# Altium schematic symbol library kmilo17pet-TI_StepDown.SchLib: 565 symbols (part 3 of 33)
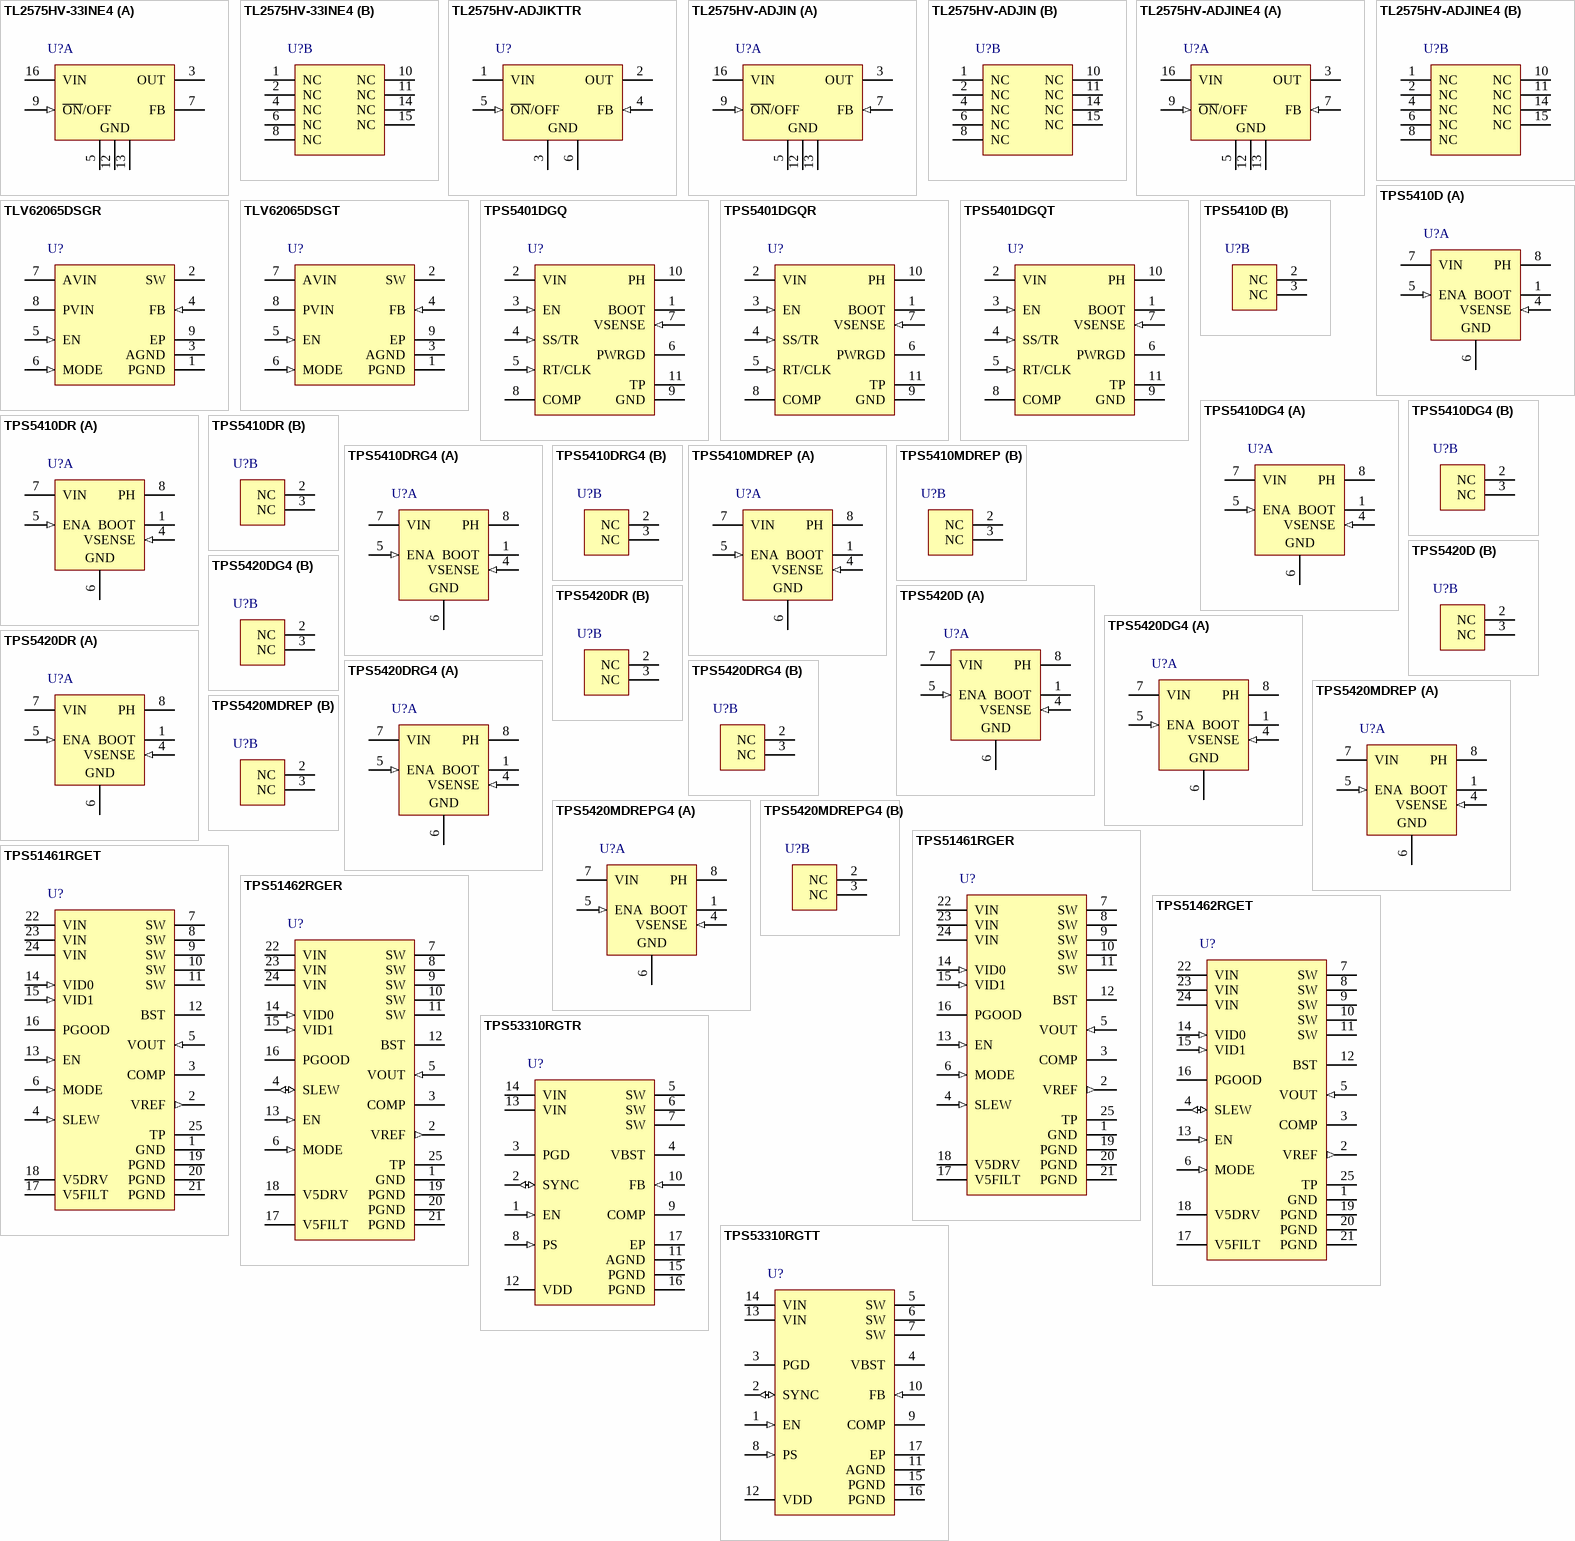
[diagram p21: symbols TL2575HV-33INE4 to TPS53310RGTT]

## TLV62065DSGR
designator U?
Buck Step Down Regulator with 2.9 to 5.5 V Input and 0.8 to 5.5 V Output, -40 to 85 degC, 8-Pin WSON (DSG), Green (RoHS & no Sb/Br); Manufacturer: Texas Instruments; PartNumber: TLV62065DSGR; Duty Cycle(Max)(%): 100; Iout(Max)(A): 2; Iq(Typ)(mA): 18; Rating: Catalog; Regulated Outputs(#): 1; SubFamily: Step-Down Regulator; Switch Current Limit(Typ)(A): 2.75; Vin(Max)(V): 5.5; Vin(Min)(V): 2.9; Vout(Min)(V): 0.8; DatasheetVersion: SLVSAC4A; PackageVersion: revB, Oct-2010; PackageReference: DSG8-1600X900TP; PackageDescription: 8-Pin Plastic Small Outline No-Lead, 2 x 2 x 0.8 mm Body, 0.5 mm Pitch, Exposed Pad; Supplier 1: Digi-Key; Supplier Part Number 1: TLV62065DSGR-ND; Eco-Plan: Green (RoHS & no Sb/Br); Topology: Buck; Vout(Max)(V): 5.5; Mounting Technology: Surface Mount; Code_JEDEC: MO-229; ComponentLink1Description: Datasheet; ComponentLink1URL: http://www.ti.com/general/docs/lit/getliterature.tsp?genericPartNumber=TLV62065&fileType=pdf; ComponentLink2Description: Package Specification; ComponentLink2URL: http://www.ti.com/litv/pdf/mpds308a; ComponentLink3Description: URL Link1; ComponentLink3URL: Samples URL:http://www.ti.com/product/tlv62065#samples
footprint DSG8-1600X900TP (SON, 8-Leads, Body 2x2mm, Pitch 0.5mm, Thermal Pad 1.6x0.9mm, TI Recommended)
pins: 1 PGND (power) "GND supply pin for the output stage.", 2 SW (power) "This is the switch pin and is connected to the internal MOSFET switches. Connect the external inductor between this terminal and the output capacitor.", 3 AGND (power) "Analog GND supply pin for the control circuit.", 4 FB (in) "Feedback pin for the internal regulation loop. Connect the external resistor divider to this pin. In case of fixed output voltage option, connect this pin directly to the output capacitor", 5 EN (in) "This is the enable pin of the device. Pulling this pin to low forces the device into shutdown mode. Pulling this pin to high enables the device. This pin must be terminated", 6 MODE (in) "MODE pin = high forces the device to operate in fixed frequency PWM mode. MODE pin = low enables the Power Save Mode with automatic transition from PFM mode to fixed frequency PWM mode. This pin must be terminated.", 7 AVIN (power) "Analog VIN power supply for the control circuit. Need to be connected to PVIN and input capacitor.", 8 PVIN (power) "VIN power supply pin for the output stage.", 9 EP (power) "For good thermal performance, this PAD must be soldered to the land pattern on the pcb. This PAD should be used as device GND."

## TLV62065DSGT
designator U?
Buck Step Down Regulator with 2.9 to 5.5 V Input and 0.8 to 5.5 V Output, -40 to 85 degC, 8-Pin WSON (DSG), Green (RoHS & no Sb/Br); Manufacturer: Texas Instruments; PartNumber: TLV62065DSGT; Duty Cycle(Max)(%): 100; Iout(Max)(A): 2; Iq(Typ)(mA): 18; Rating: Catalog; Regulated Outputs(#): 1; SubFamily: Step-Down Regulator; Switch Current Limit(Typ)(A): 2.75; Vin(Max)(V): 5.5; Vin(Min)(V): 2.9; Vout(Min)(V): 0.8; DatasheetVersion: SLVSAC4A; PackageVersion: revB, Oct-2010; PackageReference: DSG8-1600X900TP; PackageDescription: 8-Pin Plastic Small Outline No-Lead, 2 x 2 x 0.8 mm Body, 0.5 mm Pitch, Exposed Pad; Supplier 1: Digi-Key; Supplier Part Number 1: 296-28083-2-ND; Eco-Plan: Green (RoHS & no Sb/Br); Topology: Buck; Vout(Max)(V): 5.5; Mounting Technology: Surface Mount; Code_JEDEC: MO-229; ComponentLink1Description: Datasheet; ComponentLink1URL: http://www.ti.com/general/docs/lit/getliterature.tsp?genericPartNumber=TLV62065&fileType=pdf; ComponentLink2Description: Package Specification; ComponentLink2URL: http://www.ti.com/litv/pdf/mpds308a; ComponentLink3Description: URL Link1; ComponentLink3URL: Samples URL:http://www.ti.com/product/tps54611#samples
footprint DSG8-1600X900TP (SON, 8-Leads, Body 2x2mm, Pitch 0.5mm, Thermal Pad 1.6x0.9mm, TI Recommended)
pins: 1 PGND (power) "GND supply pin for the output stage.", 2 SW (power) "This is the switch pin and is connected to the internal MOSFET switches. Connect the external inductor between this terminal and the output capacitor.", 3 AGND (power) "Analog GND supply pin for the control circuit.", 4 FB (in) "Feedback pin for the internal regulation loop. Connect the external resistor divider to this pin. In case of fixed output voltage option, connect this pin directly to the output capacitor", 5 EN (in) "This is the enable pin of the device. Pulling this pin to low forces the device into shutdown mode. Pulling this pin to high enables the device. This pin must be terminated", 6 MODE (in) "MODE pin = high forces the device to operate in fixed frequency PWM mode. MODE pin = low enables the Power Save Mode with automatic transition from PFM mode to fixed frequency PWM mode. This pin must be terminated.", 7 AVIN (power) "Analog VIN power supply for the control circuit. Need to be connected to PVIN and input capacitor.", 8 PVIN (power) "VIN power supply pin for the output stage.", 9 EP (power) "For good thermal performance, this PAD must be soldered to the land pattern on the pcb. This PAD should be used as device GND."

## TPS5401DGQ
designator U?
Buck Step Down Regulator with 3.5 to 42 V Input and 0.8 to 39 V Output, -40 to 150 degC, 10-Pin MSOP-PowerPAD (DGQ), Green (RoHS & no Sb/Br); Manufacturer: Texas Instruments; PartNumber: TPS5401DGQ; Duty Cycle(Max)(%): 98; Iout(Max)(A): 0.5; Iq(Typ)(mA): 0.116; Rating: Catalog; Regulated Outputs(#): 1; SubFamily: Step-Down Regulator; Switch Current Limit(Typ)(A): 0.94; Vin(Max)(V): 42; Vin(Min)(V): 3.5; Vout(Max)(V): 39; Vout(Min)(V): 0.8; DatasheetVersion: SLVSAB0; PackageVersion: revF, Nov-2011; PackageReference: DGQ10-1675X1445TP; PackageDescription: 10-Pin PowerPAD Plastic Small Outline 0.5 mm Pitch, Exposed Pad; Supplier 1: Digi-Key; Supplier Part Number 1: 296-34610-5-ND; Eco-Plan: Green (RoHS & no Sb/Br); Topology: Buck; Mounting Technology: Surface Mount; Code_JEDEC: MO-187-BA-T; ComponentLink1Description: Datasheet; ComponentLink1URL: http://www.ti.com/general/docs/lit/getliterature.tsp?genericPartNumber=TPS5401&fileType=pdf; ComponentLink2Description: Package Specification; ComponentLink2URL: http://www.ti.com/lit/ml/mpds043e/mpds043e.pdf; ComponentLink3Description: URL Link1; ComponentLink3URL: Samples URL:http://www.ti.com/product/tps5401#samples
footprint DGQ10-1675X1445TP_N (TSSOP, 10-Leads, Body 3x3mm, Pitch 0.5mm, Thermal Pad 1.88x1.57mm, IPC Medium Density)
footprint DGQ10-1675X1445TP_L (TSSOP, 10-Leads, Body 3x3mm, Pitch 0.5mm, Thermal Pad 1.88x1.57mm, IPC High Density)
footprint DGQ10-1675X1445TP_M (TSSOP, 10-Leads, Body 3x3mm, Pitch 0.5mm, Thermal Pad 1.88x1.57mm, IPC Low Density)
pins: 1 BOOT "A bootstrap capacitor is required between BOOT and PH. If the voltage on this capacitor is below the minimum required by the output device, the output is forced to switch off until the capacitor is refreshed.", 2 VIN (power) "Input supply voltage, 3.5 V to 42 V.", 3 EN (in) "Enable pin, internal pullup current source. Pull below 1.2 V to disable. Float to enable. Adjust the input undervoltage lockout with two resistors.", 4 SS/TR (in) "Slow-start and tracking. An external capacitor connected to this pin sets the output rise time. Because the voltage on this pin overrides the internal reference, it can be used for tracking and sequencing.", 5 RT/CLK (in) "Resistor timing and external clock. An internal amplifier holds this pin at a fixed voltage when using an external resistor to ground to set the switching frequency. If the pin is pulled above the PLL upper threshold, a mode (See Datasheet)", 6 PWRGD (oc) "An open-drain output; asserts low if output voltage is low due to thermal shutdown, dropout, overvoltage or EN shutdown.", 7 VSENSE (in) "Inverting node of the transconductance (gm) error amplifier.", 8 COMP "Error amplifier output, and input to the output switch current comparator. Connect frequency compensation components to this pin.", 9 GND (power) "Ground", 10 PH (power) "The source of the internal high-side power MOSFET", 11 TP (power) "GND pin must be electrically connected to the thermal pad on the printed circuit board for proper operation."

## TPS5401DGQR
designator U?
Buck Step Down Regulator with 3.5 to 42 V Input and 0.8 to 39 V Output, -40 to 150 degC, 10-Pin MSOP-PowerPAD (DGQ), Green (RoHS & no Sb/Br); Manufacturer: Texas Instruments; PartNumber: TPS5401DGQR; Duty Cycle(Max)(%): 98; Iout(Max)(A): 0.5; Iq(Typ)(mA): 0.116; Rating: Catalog; Regulated Outputs(#): 1; SubFamily: Step-Down Regulator; Switch Current Limit(Typ)(A): 0.94; Vin(Max)(V): 42; Vin(Min)(V): 3.5; Vout(Max)(V): 39; Vout(Min)(V): 0.8; DatasheetVersion: SLVSAB0; PackageVersion: revF, Nov-2011; PackageReference: DGQ10-1675X1445TP; PackageDescription: 10-Pin PowerPAD Plastic Small Outline 0.5 mm Pitch, Exposed Pad; Supplier 1: Digi-Key; Supplier Part Number 1: TPS5401DGQR-ND; Eco-Plan: Green (RoHS & no Sb/Br); Topology: Buck; Mounting Technology: Surface Mount; Code_JEDEC: MO-187-BA-T; ComponentLink1Description: Datasheet; ComponentLink1URL: http://www.ti.com/general/docs/lit/getliterature.tsp?genericPartNumber=TPS5401&fileType=pdf; ComponentLink2Description: Package Specification; ComponentLink2URL: http://www.ti.com/lit/ml/mpds043e/mpds043e.pdf; ComponentLink3Description: URL Link1; ComponentLink3URL: Samples URL:http://www.ti.com/product/tps5401#samples
footprint DGQ10-1675X1445TP_N (TSSOP, 10-Leads, Body 3x3mm, Pitch 0.5mm, Thermal Pad 1.88x1.57mm, IPC Medium Density)
footprint DGQ10-1675X1445TP_L (TSSOP, 10-Leads, Body 3x3mm, Pitch 0.5mm, Thermal Pad 1.88x1.57mm, IPC High Density)
footprint DGQ10-1675X1445TP_M (TSSOP, 10-Leads, Body 3x3mm, Pitch 0.5mm, Thermal Pad 1.88x1.57mm, IPC Low Density)
pins: 1 BOOT "A bootstrap capacitor is required between BOOT and PH. If the voltage on this capacitor is below the minimum required by the output device, the output is forced to switch off until the capacitor is refreshed.", 2 VIN (power) "Input supply voltage, 3.5 V to 42 V.", 3 EN (in) "Enable pin, internal pullup current source. Pull below 1.2 V to disable. Float to enable. Adjust the input undervoltage lockout with two resistors.", 4 SS/TR (in) "Slow-start and tracking. An external capacitor connected to this pin sets the output rise time. Because the voltage on this pin overrides the internal reference, it can be used for tracking and sequencing.", 5 RT/CLK (in) "Resistor timing and external clock. An internal amplifier holds this pin at a fixed voltage when using an external resistor to ground to set the switching frequency. If the pin is pulled above the PLL upper threshold, a mode (See Datasheet)", 6 PWRGD (oc) "An open-drain output; asserts low if output voltage is low due to thermal shutdown, dropout, overvoltage or EN shutdown.", 7 VSENSE (in) "Inverting node of the transconductance (gm) error amplifier.", 8 COMP "Error amplifier output, and input to the output switch current comparator. Connect frequency compensation components to this pin.", 9 GND (power) "Ground", 10 PH (power) "The source of the internal high-side power MOSFET", 11 TP (power) "GND pin must be electrically connected to the thermal pad on the printed circuit board for proper operation."

## TPS5401DGQT
designator U?
Buck Step Down Regulator with 3.5 to 42 V Input and 0.8 to 39 V Output, -40 to 150 degC, 10-Pin MSOP-PowerPAD (DGQ), Green (RoHS & no Sb/Br); Manufacturer: Texas Instruments; PartNumber: TPS5401DGQT; Duty Cycle(Max)(%): 98; Iout(Max)(A): 0.5; Iq(Typ)(mA): 0.116; Rating: Catalog; Regulated Outputs(#): 1; SubFamily: Step-Down Regulator; Switch Current Limit(Typ)(A): 0.94; Synchronous Rectification: False; Vin(Max)(V): 42; Vin(Min)(V): 3.5; Vout(Max)(V): 39; Vout(Min)(V): 0.8; DatasheetVersion: SLVSAB0; PackageVersion: revF, Nov-2011; PackageReference: DGQ10-1675X1445TP; PackageDescription: 10-Pin PowerPAD Plastic Small Outline 0.5 mm Pitch, Exposed Pad; Supplier 1: Digi-Key; Supplier Part Number 1: 296-28092-2-ND; Eco-Plan: Green (RoHS & no Sb/Br); Topology: Buck; Mounting Technology: Surface Mount; Code_JEDEC: MO-187-BA-T; ComponentLink1Description: Datasheet; ComponentLink1URL: http://www.ti.com/general/docs/lit/getliterature.tsp?genericPartNumber=TPS5401&fileType=pdf; ComponentLink2Description: Package Specification; ComponentLink2URL: http://www.ti.com/lit/ml/mpds043e/mpds043e.pdf; ComponentLink3Description: URL Link1; ComponentLink3URL: Samples URL:http://www.ti.com/product/tps5401
footprint DGQ10-1675X1445TP_N (TSSOP, 10-Leads, Body 3x3mm, Pitch 0.5mm, Thermal Pad 1.88x1.57mm, IPC Medium Density)
footprint DGQ10-1675X1445TP_L (TSSOP, 10-Leads, Body 3x3mm, Pitch 0.5mm, Thermal Pad 1.88x1.57mm, IPC High Density)
footprint DGQ10-1675X1445TP_M (TSSOP, 10-Leads, Body 3x3mm, Pitch 0.5mm, Thermal Pad 1.88x1.57mm, IPC Low Density)
pins: 1 BOOT "A bootstrap capacitor is required between BOOT and PH. If the voltage on this capacitor is below the minimum required by the output device, the output is forced to switch off until the capacitor is refreshed.", 2 VIN (power) "Input supply voltage, 3.5 V to 42 V.", 3 EN (in) "Enable pin, internal pullup current source. Pull below 1.2 V to disable. Float to enable. Adjust the input undervoltage lockout with two resistors.", 4 SS/TR (in) "Slow-start and tracking. An external capacitor connected to this pin sets the output rise time. Because the voltage on this pin overrides the internal reference, it can be used for tracking and sequencing.", 5 RT/CLK (in) "Resistor timing and external clock. An internal amplifier holds this pin at a fixed voltage when using an external resistor to ground to set the switching frequency. If the pin is pulled above the PLL upper threshold, a mode (See Datasheet)", 6 PWRGD (oc) "An open-drain output; asserts low if output voltage is low due to thermal shutdown, dropout, overvoltage or EN shutdown.", 7 VSENSE (in) "Inverting node of the transconductance (gm) error amplifier.", 8 COMP "Error amplifier output, and input to the output switch current comparator. Connect frequency compensation components to this pin.", 9 GND (power) "Ground", 10 PH (power) "The source of the internal high-side power MOSFET", 11 TP (power) "GND pin must be electrically connected to the thermal pad on the printed circuit board for proper operation."

## TPS5410D
designator U?
Buck Step Down Regulator with 5.5 to 36 V Input and 1.23 to 31 V Output, -40 to 125 degC, 8-Pin SOIC (D), Green (RoHS & no Sb/Br); Manufacturer: Texas Instruments; PartNumber: TPS5410D; Duty Cycle(Max)(%): 87.5; Iout(Max)(A): 1; Iq(Typ)(mA): 3; Rating: Catalog; SubFamily: Step-Down Regulator; Switch Current Limit(Typ)(A): 1.2; Vin(Max)(V): 36; Vin(Min)(V): 5.5; Vout(Max)(V): 31; Vout(Min)(V): 1.23; DatasheetVersion: SLVS675A; PackageVersion: revM, Jun-2011; PackageReference: D8; PackageDescription: 8-Pin Plastic Small Outline Integrated Circuit, 4.9 x 3.9 mm, Pitch 1.27 mm Pitch; Supplier 1: Digi-Key; Supplier Part Number 1: 296-20787-5-ND; Eco-Plan: Green (RoHS & no Sb/Br); Regulated Outputs(#): 1; Topology: Buck; Mounting Technology: Surface Mount; Code_JEDEC: MS-012AA; ComponentLink1Description: Datasheet; ComponentLink1URL: http://www.ti.com/general/docs/lit/getliterature.tsp?genericPartNumber=TPS5410&fileType=pdf; ComponentLink2Description: Package Specification; ComponentLink2URL: http://www.ti.com/litv/pdf/msoi002j; ComponentLink3Description: URL Link1; ComponentLink3URL: Samples URL:http://www.ti.com/product/tps5410#samples
footprint D8_N (SOIC, 8-Leads, Body 4.9x3.9mm, Pitch 1.27mm, IPC Medium Density)
footprint D8_L (SOIC, 8-Leads, Body 4.9x3.9mm, Pitch 1.27mm, IPC High Density)
footprint D8_M (SOIC, 8-Leads, Body 4.9x3.9mm, Pitch 1.27mm, IPC Low Density)
part A pins: 1 BOOT "Boost capacitor for the high-side FET gate driver. Connect 0.01 mF low ESR capacitor from BOOT pin to PH pin.", 4 VSENSE (in) "Feedback voltage for the regulator. Connect to output voltage divider", 5 ENA (in) "On/off control. Below 0.5 V, the device stops switching. Float the pin to enable.", 6 GND (power) "Ground", 7 VIN (power) "Input supply voltage. Bypass VIN pin to GND pin close to device package with a high quality, low ESR ceramic capacitor.", 8 PH (power) "Source of the high side power MOSFET. Connected to external inductor and diode."
part B pins: 2 NC "Not connected internally.", 3 NC "Not connected internally."

## TPS5410DG4
designator U?
Buck Step Down Regulator with 5.5 to 36 V Input and 1.23 to 31 V Output, -40 to 125 degC, 8-Pin SOIC (D), Green (RoHS & no Sb/Br); Manufacturer: Texas Instruments; PartNumber: TPS5410DG4; Duty Cycle(Max)(%): 87.5; Iout(Max)(A): 1; Iq(Typ)(mA): 3; Rating: Catalog; SubFamily: Step-Down Regulator; Switch Current Limit(Typ)(A): 1.2; Vin(Max)(V): 36; Vin(Min)(V): 5.5; Vout(Max)(V): 31; Vout(Min)(V): 1.23; DatasheetVersion: SLVS675A; PackageVersion: revM, Jun-2011; PackageReference: D8; PackageDescription: 8-Pin Plastic Small Outline Integrated Circuit, 4.9 x 3.9 mm, Pitch 1.27 mm Pitch; Supplier 1: Digi-Key; Supplier Part Number 1: TPS5410DG4-ND; Eco-Plan: Green (RoHS & no Sb/Br); Regulated Outputs(#): 1; Topology: Buck; Mounting Technology: Surface Mount; Code_JEDEC: MS-012AA; ComponentLink1Description: Datasheet; ComponentLink1URL: http://www.ti.com/general/docs/lit/getliterature.tsp?genericPartNumber=TPS5410&fileType=pdf; ComponentLink2Description: Package Specification; ComponentLink2URL: http://www.ti.com/litv/pdf/msoi002j; ComponentLink3Description: URL Link1; ComponentLink3URL: Samples URL:http://www.ti.com/product/tps5410#samples
footprint D8_N (SOIC, 8-Leads, Body 4.9x3.9mm, Pitch 1.27mm, IPC Medium Density)
footprint D8_L (SOIC, 8-Leads, Body 4.9x3.9mm, Pitch 1.27mm, IPC High Density)
footprint D8_M (SOIC, 8-Leads, Body 4.9x3.9mm, Pitch 1.27mm, IPC Low Density)
part A pins: 1 BOOT "Boost capacitor for the high-side FET gate driver. Connect 0.01 mF low ESR capacitor from BOOT pin to PH pin.", 4 VSENSE (in) "Feedback voltage for the regulator. Connect to output voltage divider", 5 ENA (in) "On/off control. Below 0.5 V, the device stops switching. Float the pin to enable.", 6 GND (power) "Ground", 7 VIN (power) "Input supply voltage. Bypass VIN pin to GND pin close to device package with a high quality, low ESR ceramic capacitor.", 8 PH (power) "Source of the high side power MOSFET. Connected to external inductor and diode."
part B pins: 2 NC "Not connected internally.", 3 NC "Not connected internally."

## TPS5410DR
designator U?
Buck Step Down Regulator with 5.5 to 36 V Input and 1.23 to 31 V Output, -40 to 125 degC, 8-Pin SOIC (D), Green (RoHS & no Sb/Br); Manufacturer: Texas Instruments; PartNumber: TPS5410DR; Duty Cycle(Max)(%): 87.5; Iout(Max)(A): 1; Iq(Typ)(mA): 3; Rating: Catalog; SubFamily: Step-Down Regulator; Switch Current Limit(Typ)(A): 1.2; Vin(Max)(V): 36; Vin(Min)(V): 5.5; Vout(Max)(V): 31; Vout(Min)(V): 1.23; DatasheetVersion: SLVS675A; PackageVersion: revM, Jun-2011; PackageReference: D8; PackageDescription: 8-Pin Plastic Small Outline Integrated Circuit, 4.9 x 3.9 mm, Pitch 1.27 mm Pitch; Supplier 1: Digi-Key; Supplier Part Number 1: 296-26982-2-ND; Eco-Plan: Green (RoHS & no Sb/Br); Regulated Outputs(#): 1; Topology: Buck; Mounting Technology: Surface Mount; Code_JEDEC: MS-012AA; ComponentLink1Description: Datasheet; ComponentLink1URL: http://www.ti.com/general/docs/lit/getliterature.tsp?genericPartNumber=TPS5410&fileType=pdf; ComponentLink2Description: Package Specification; ComponentLink2URL: http://www.ti.com/litv/pdf/msoi002j; ComponentLink3Description: URL Link1; ComponentLink3URL: Samples URL:http://www.ti.com/product/tps5410#samples
footprint D8_N (SOIC, 8-Leads, Body 4.9x3.9mm, Pitch 1.27mm, IPC Medium Density)
footprint D8_L (SOIC, 8-Leads, Body 4.9x3.9mm, Pitch 1.27mm, IPC High Density)
footprint D8_M (SOIC, 8-Leads, Body 4.9x3.9mm, Pitch 1.27mm, IPC Low Density)
part A pins: 1 BOOT "Boost capacitor for the high-side FET gate driver. Connect 0.01 mF low ESR capacitor from BOOT pin to PH pin.", 4 VSENSE (in) "Feedback voltage for the regulator. Connect to output voltage divider", 5 ENA (in) "On/off control. Below 0.5 V, the device stops switching. Float the pin to enable.", 6 GND (power) "Ground", 7 VIN (power) "Input supply voltage. Bypass VIN pin to GND pin close to device package with a high quality, low ESR ceramic capacitor.", 8 PH (power) "Source of the high side power MOSFET. Connected to external inductor and diode."
part B pins: 2 NC "Not connected internally.", 3 NC "Not connected internally."

## TPS5410DRG4
designator U?
Buck Step Down Regulator with 5.5 to 36 V Input and 1.23 to 31 V Output, -40 to 125 degC, 8-Pin SOIC (D), Green (RoHS & no Sb/Br); Manufacturer: Texas Instruments; PartNumber: TPS5410DRG4; Duty Cycle(Max)(%): 87.5; Iout(Max)(A): 1; Iq(Typ)(mA): 3; Rating: Catalog; SubFamily: Step-Down Regulator; Switch Current Limit(Typ)(A): 1.2; Vin(Max)(V): 36; Vin(Min)(V): 5..5; Vout(Max)(V): 31; Vout(Min)(V): 1.23; DatasheetVersion: SLVS675A; PackageVersion: revM, Jun-2011; PackageReference: D8; PackageDescription: 8-Pin Plastic Small Outline Integrated Circuit, 4.9 x 3.9 mm, Pitch 1.27 mm Pitch; Supplier 1: Digi-Key; Supplier Part Number 1: TPS5410DRG4-ND; Eco-Plan: Green (RoHS & no Sb/Br); Regulated Outputs(#): 1; Topology: Buck; Mounting Technology: Surface Mount; Code_JEDEC: MS-012AA; ComponentLink1Description: Datasheet; ComponentLink1URL: http://www.ti.com/general/docs/lit/getliterature.tsp?genericPartNumber=TPS5410&fileType=pdf; ComponentLink2Description: Package Specification; ComponentLink2URL: http://www.ti.com/litv/pdf/msoi002j; ComponentLink3Description: URL Link1; ComponentLink3URL: Samples URL:http://www.ti.com/product/tps54611#samples
footprint D8_N (SOIC, 8-Leads, Body 4.9x3.9mm, Pitch 1.27mm, IPC Medium Density)
footprint D8_L (SOIC, 8-Leads, Body 4.9x3.9mm, Pitch 1.27mm, IPC High Density)
footprint D8_M (SOIC, 8-Leads, Body 4.9x3.9mm, Pitch 1.27mm, IPC Low Density)
part A pins: 1 BOOT "Boost capacitor for the high-side FET gate driver. Connect 0.01 mF low ESR capacitor from BOOT pin to PH pin.", 4 VSENSE (in) "Feedback voltage for the regulator. Connect to output voltage divider", 5 ENA (in) "On/off control. Below 0.5 V, the device stops switching. Float the pin to enable.", 6 GND (power) "Ground", 7 VIN (power) "Input supply voltage. Bypass VIN pin to GND pin close to device package with a high quality, low ESR ceramic capacitor.", 8 PH (power) "Source of the high side power MOSFET. Connected to external inductor and diode."
part B pins: 2 NC "Not connected internally.", 3 NC "Not connected internally."

## TPS5410MDREP
designator U?
Buck Step Down Regulator with 5.5 to 36 V Input and 1.23 to 31 V Output, -55 to 125 degC, 8-Pin SOIC (D), Green (RoHS & no Sb/Br); Manufacturer: Texas Instruments; PartNumber: TPS5410MDREP; Duty Cycle(Max)(%): 87.5; Iout(Max)(A): 1; Iq(Typ)(mA): 3; Rating: HiRel Enhanced Product; SubFamily: Step-Down Regulator; Switch Current Limit(Typ)(A): 1.2; Vin(Max)(V): 36; Vin(Min)(V): 5.5; Vout(Max)(V): 31; Vout(Min)(V): 1.23; DatasheetVersion: SLVS910; PackageVersion: revM, Jun-2011; PackageReference: D8; PackageDescription: 8-Pin Plastic Small Outline Integrated Circuit, 4.9 x 3.9 mm, Pitch 1.27 mm Pitch; Supplier 1: Digi-Key; Supplier Part Number 1: 296-25179-2-ND; Eco-Plan: Green (RoHS & no Sb/Br); Regulated Outputs(#): 1; Topology: Buck; Mounting Technology: Surface Mount; Code_JEDEC: MS-012AA; ComponentLink1Description: Datasheet; ComponentLink1URL: http://www.ti.com/general/docs/lit/getliterature.tsp?genericPartNumber=TPS5410-EP&fileType=pdf; ComponentLink2Description: Package Specification; ComponentLink2URL: http://www.ti.com/litv/pdf/msoi002j; ComponentLink3Description: URL Link1; ComponentLink3URL: Samples URL:http://www.ti.com/product/tps5410-ep#samples
footprint D8_N (SOIC, 8-Leads, Body 4.9x3.9mm, Pitch 1.27mm, IPC Medium Density)
footprint D8_L (SOIC, 8-Leads, Body 4.9x3.9mm, Pitch 1.27mm, IPC High Density)
footprint D8_M (SOIC, 8-Leads, Body 4.9x3.9mm, Pitch 1.27mm, IPC Low Density)
part A pins: 1 BOOT "Boost capacitor for the high-side FET gate driver. Connect 0.01 uF low ESR capacitor from BOOT pin to PH pin.", 4 VSENSE (in) "Feedback voltage for the regulator. Connect to output voltage divider.", 5 ENA (in) "On/off control. Below 0.5 V, the device stops switching. Float the pin to enable.", 6 GND (power) "Ground.", 7 VIN (power) "Input supply voltage. Bypass VIN pin to GND pin close to device package with a high quality, low ESR ceramic capacitor.", 8 PH (power) "Source of the high side power MOSFET. Connected to external inductor and diode."
part B pins: 2 NC "Not connected internally.", 3 NC "Not connected internally."

## TPS5420D
designator U?
Buck Step Down Regulator with 5.5 to 36 V Input and 1.23 to 31 V Output, -40 to 125 degC, 8-Pin SOIC (D), Green (RoHS & no Sb/Br); Manufacturer: Texas Instruments; PartNumber: TPS5420D; Duty Cycle(Max)(%): 87; Iout(Max)(A): 2; Iq(Typ)(mA): 3; Rating: Catalog; Regulated Outputs(#): 1; SubFamily: Step-Down Regulator; Vin(Max)(V): 36; Vin(Min)(V): 5.5; Vout(Max)(V): 31; Vout(Min)(V): 1.23; DatasheetVersion: SLVS642C; PackageVersion: revM, Jun-2011; PackageReference: D8; PackageDescription: 8-Pin Plastic Small Outline Integrated Circuit, 4.9 x 3.9 mm, Pitch 1.27 mm Pitch; Supplier 1: Digi-Key; Supplier Part Number 1: 296-19671-5-ND; Eco-Plan: Green (RoHS & no Sb/Br); Switch Current Limit(Typ)(A): 3; Topology: Buck; Mounting Technology: Surface Mount; Code_JEDEC: MS-012AA; ComponentLink1Description: Datasheet; ComponentLink1URL: http://www.ti.com/general/docs/lit/getliterature.tsp?genericPartNumber=TPS5420&fileType=pdf; ComponentLink2Description: Package Specification; ComponentLink2URL: http://www.ti.com/litv/pdf/msoi002j; ComponentLink3Description: URL Link1; ComponentLink3URL: Samples URL:http://www.ti.com/product/tps5420#samples
footprint D8_N (SOIC, 8-Leads, Body 4.9x3.9mm, Pitch 1.27mm, IPC Medium Density)
footprint D8_L (SOIC, 8-Leads, Body 4.9x3.9mm, Pitch 1.27mm, IPC High Density)
footprint D8_M (SOIC, 8-Leads, Body 4.9x3.9mm, Pitch 1.27mm, IPC Low Density)
part A pins: 1 BOOT "Boost capacitor for the high-side FET gate driver. Connect 0.01 uF low ESR capacitor from BOOT pin to PH pin.", 4 VSENSE (in) "Feedback voltage for the regulator. Connect to output voltage divider.", 5 ENA (in) "On/off control. Below 0.5 V, the device stops switching. Float the pin to enable.", 6 GND (power) "Ground.", 7 VIN (power) "Input supply voltage. Bypass VIN pin to GND pin close to device package with a high quality, low ESR ceramic capacitor.", 8 PH (power) "Source of the high side power MOSFET. Connected to external inductor and diode."
part B pins: 2 NC "Not connected internally.", 3 NC "Not connected internally."

## TPS5420DG4
designator U?
Buck Step Down Regulator with 5.5 to 36 V Input and 1.23 to 31 V Output, -40 to 125 degC, 8-Pin SOIC (D), Green (RoHS & no Sb/Br); Manufacturer: Texas Instruments; PartNumber: TPS5420DG4; Duty Cycle(Max)(%): 87; Iout(Max)(A): 2; Iq(Typ)(mA): 3; Rating: Catalog; Regulated Outputs(#): 1; SubFamily: Step-Down Regulator; Vin(Max)(V): 36; Vin(Min)(V): 5.5; Vout(Max)(V): 31; Vout(Min)(V): 1.23; DatasheetVersion: SLVS642C; PackageVersion: revM, Jun-2011; PackageReference: D8; PackageDescription: 8-Pin Plastic Small Outline Integrated Circuit, 4.9 x 3.9 mm, Pitch 1.27 mm Pitch; Supplier 1: Digi-Key; Supplier Part Number 1: TPS5420DG4-ND; Eco-Plan: Green (RoHS & no Sb/Br); Switch Current Limit(Typ)(A): 3; Topology: Buck; Mounting Technology: Surface Mount; Code_JEDEC: MS-012AA; ComponentLink1Description: Datasheet; ComponentLink1URL: http://www.ti.com/general/docs/lit/getliterature.tsp?genericPartNumber=TPS5420&fileType=pdf; ComponentLink2Description: Package Specification; ComponentLink2URL: http://www.ti.com/litv/pdf/msoi002j; ComponentLink3Description: URL Link1; ComponentLink3URL: Samples URL:http://www.ti.com/product/tps5420#samples
footprint D8_N (SOIC, 8-Leads, Body 4.9x3.9mm, Pitch 1.27mm, IPC Medium Density)
footprint D8_L (SOIC, 8-Leads, Body 4.9x3.9mm, Pitch 1.27mm, IPC High Density)
footprint D8_M (SOIC, 8-Leads, Body 4.9x3.9mm, Pitch 1.27mm, IPC Low Density)
part A pins: 1 BOOT "Boost capacitor for the high-side FET gate driver. Connect 0.01 uF low ESR capacitor from BOOT pin to PH pin.", 4 VSENSE (in) "Feedback voltage for the regulator. Connect to output voltage divider.", 5 ENA (in) "On/off control. Below 0.5 V, the device stops switching. Float the pin to enable.", 6 GND (power) "Ground.", 7 VIN (power) "Input supply voltage. Bypass VIN pin to GND pin close to device package with a high quality, low ESR ceramic capacitor.", 8 PH (power) "Source of the high side power MOSFET. Connected to external inductor and diode."
part B pins: 2 NC "Not connected internally.", 3 NC "Not connected internally."

## TPS5420DR
designator U?
Buck Step Down Regulator with 5.5 to 36 V Input and 1.23 to 31 V Output, -40 to 125 degC, 8-Pin SOIC (D), Green (RoHS & no Sb/Br); Manufacturer: Texas Instruments; PartNumber: TPS5420DR; Duty Cycle(Max)(%): 87; Iout(Max)(A): 2; Iq(Typ)(mA): 3; Rating: Catalog; Regulated Outputs(#): 1; SubFamily: Step-Down Regulator; Vin(Max)(V): 36; Vin(Min)(V): 5.5; Vout(Max)(V): 31; Vout(Min)(V): 1.23; DatasheetVersion: SLVS642C; PackageVersion: revM, Jun-2011; PackageReference: D8; PackageDescription: 8-Pin Plastic Small Outline Integrated Circuit, 4.9 x 3.9 mm, Pitch 1.27 mm Pitch; Supplier 1: Digi-Key; Supplier Part Number 1: 296-31984-2-ND; Eco-Plan: Green (RoHS & no Sb/Br); Switch Current Limit(Typ)(A): 3; Topology: Buck; Mounting Technology: Surface Mount; Code_JEDEC: MS-012AA; ComponentLink1Description: Datasheet; ComponentLink1URL: http://www.ti.com/general/docs/lit/getliterature.tsp?genericPartNumber=TPS5420&fileType=pdf; ComponentLink2Description: Package Specification; ComponentLink2URL: http://www.ti.com/litv/pdf/msoi002j; ComponentLink3Description: URL Link1; ComponentLink3URL: Samples URL:http://www.ti.com/product/tps5420#samples
footprint D8_N (SOIC, 8-Leads, Body 4.9x3.9mm, Pitch 1.27mm, IPC Medium Density)
footprint D8_L (SOIC, 8-Leads, Body 4.9x3.9mm, Pitch 1.27mm, IPC High Density)
footprint D8_M (SOIC, 8-Leads, Body 4.9x3.9mm, Pitch 1.27mm, IPC Low Density)
part A pins: 1 BOOT "Boost capacitor for the high-side FET gate driver. Connect 0.01 uF low ESR capacitor from BOOT pin to PH pin.", 4 VSENSE (in) "Feedback voltage for the regulator. Connect to output voltage divider.", 5 ENA (in) "On/off control. Below 0.5 V, the device stops switching. Float the pin to enable.", 6 GND (power) "Ground.", 7 VIN (power) "Input supply voltage. Bypass VIN pin to GND pin close to device package with a high quality, low ESR ceramic capacitor.", 8 PH (power) "Source of the high side power MOSFET. Connected to external inductor and diode."
part B pins: 2 NC "Not connected internally.", 3 NC "Not connected internally."

## TPS5420DRG4
designator U?
Buck Step Down Regulator with 5.5 to 36 V Input and 1.23 to 31 V Output, -40 to 125 degC, 8-Pin SOIC (D), Green (RoHS & no Sb/Br); Manufacturer: Texas Instruments; PartNumber: TPS5420DRG4; Duty Cycle(Max)(%): 87; Iout(Max)(A): 2; Iq(Typ)(mA): 3; Rating: Catalog; Regulated Outputs(#): 1; SubFamily: Step-Down Regulator; Vin(Max)(V): 36; Vin(Min)(V): 5.5; Vout(Max)(V): 31; Vout(Min)(V): 1.23; DatasheetVersion: SLVS642C; PackageVersion: revM, Jun-2011; PackageReference: D8; PackageDescription: 8-Pin Plastic Small Outline Integrated Circuit, 4.9 x 3.9 mm, Pitch 1.27 mm Pitch; Supplier 1: Digi-Key; Supplier Part Number 1: TPS5420DRG4-ND; Eco-Plan: Green (RoHS & no Sb/Br); Switch Current Limit(Typ)(A): 3; Topology: Buck; Mounting Technology: Surface Mount; Code_JEDEC: MS-012AA; ComponentLink1Description: Datasheet; ComponentLink1URL: http://www.ti.com/general/docs/lit/getliterature.tsp?genericPartNumber=TPS5420&fileType=pdf; ComponentLink2Description: Package Specification; ComponentLink2URL: http://www.ti.com/litv/pdf/msoi002j; ComponentLink3Description: URL Link1; ComponentLink3URL: Samples URL:http://www.ti.com/product/tps54611#samples
footprint D8_N (SOIC, 8-Leads, Body 4.9x3.9mm, Pitch 1.27mm, IPC Medium Density)
footprint D8_L (SOIC, 8-Leads, Body 4.9x3.9mm, Pitch 1.27mm, IPC High Density)
footprint D8_M (SOIC, 8-Leads, Body 4.9x3.9mm, Pitch 1.27mm, IPC Low Density)
part A pins: 1 BOOT "Boost capacitor for the high-side FET gate driver. Connect 0.01 uF low ESR capacitor from BOOT pin to PH pin.", 4 VSENSE (in) "Feedback voltage for the regulator. Connect to output voltage divider.", 5 ENA (in) "On/off control. Below 0.5 V, the device stops switching. Float the pin to enable.", 6 GND (power) "Ground.", 7 VIN (power) "Input supply voltage. Bypass VIN pin to GND pin close to device package with a high quality, low ESR ceramic capacitor.", 8 PH (power) "Source of the high side power MOSFET. Connected to external inductor and diode."
part B pins: 2 NC "Not connected internally.", 3 NC "Not connected internally."

## TPS5420MDREP
designator U?
Buck Step Down Regulator with 5.5 to 36 V Input and 1.23 to 31 V Output, -55 to 125 degC, 8-Pin SOIC (D), Green (RoHS & no Sb/Br); Manufacturer: Texas Instruments; PartNumber: TPS5420MDREP; Duty Cycle(Max)(%): 87; Iout(Max)(A): 2; Iq(Typ)(mA): 3; Rating: HiRel Enhanced Product; Regulated Outputs(#): 1; SubFamily: Step-Down Regulator; Vin(Max)(V): 36; Vin(Min)(V): 5.5; Vout(Max)(V): 31; Vout(Min)(V): 1.23; DatasheetVersion: SLVS717; PackageVersion: revM, Jun-2011; PackageReference: D8; PackageDescription: 8-Pin Plastic Small Outline Integrated Circuit, 4.9 x 3.9 mm, Pitch 1.27 mm Pitch; Supplier 1: Digi-Key; Supplier Part Number 1: 296-22447-2-ND; Supplier 7: Mouser; Supplier Part Number 7: 595-TPS5420MDREP; Eco-Plan: Green (RoHS & no Sb/Br); Switch Current Limit(Typ)(A): 3; Topology: Buck; Mounting Technology: Surface Mount; Code_JEDEC: MS-012AA; ComponentLink1Description: Datasheet; ComponentLink1URL: http://www.ti.com/general/docs/lit/getliterature.tsp?genericPartNumber=TPS5420-EP&fileType=pdf; ComponentLink2Description: Package Specification; ComponentLink2URL: http://www.ti.com/litv/pdf/msoi002j; ComponentLink3Description: URL Link1; ComponentLink3URL: Samples URL:http://www.ti.com/product/tps5420-ep#samples
footprint D8_N (SOIC, 8-Leads, Body 4.9x3.9mm, Pitch 1.27mm, IPC Medium Density)
footprint D8_L (SOIC, 8-Leads, Body 4.9x3.9mm, Pitch 1.27mm, IPC High Density)
footprint D8_M (SOIC, 8-Leads, Body 4.9x3.9mm, Pitch 1.27mm, IPC Low Density)
part A pins: 1 BOOT "Boost capacitor for the high-side FET gate driver. Connect 0.01-µF low-ESR capacitor from BOOT pin to PH pin.", 4 VSENSE (in) "Feedback voltage for the regulator. Connect to output voltage divider.", 5 ENA (in) "On/off control. Below 0.5 V, the device stops switching. Float the pin to enable.", 6 GND (power) "Ground", 7 VIN (power) "Input supply voltage. Bypass VIN pin to GND pin close to device package with a high-quality, low-ESR ceramic capacitor.", 8 PH (power) "Source of the high-side power MOSFET. Connected to external inductor and diode."
part B pins: 2 NC "Not connected internally", 3 NC "Not connected internally"

## TPS5420MDREPG4
designator U?
Buck Step Down Regulator with 5.5 to 36 V Input and 1.23 to 31 V Output, -55 to 125 degC, 8-Pin SOIC (D), Green (RoHS & no Sb/Br); Manufacturer: Texas Instruments; PartNumber: TPS5420MDREPG4; Duty Cycle(Max)(%): 87; Iout(Max)(A): 2; Iq(Typ)(mA): 3; Rating: HiRel Enhanced Product; Regulated Outputs(#): 1; SubFamily: Step-Down Regulator; Vin(Max)(V): 36; Vin(Min)(V): 5.5; Vout(Max)(V): 31; Vout(Min)(V): 1.23; DatasheetVersion: SLVS717; PackageVersion: revM, Jun-2011; PackageReference: D8; PackageDescription: 8-Pin Plastic Small Outline Integrated Circuit, 4.9 x 3.9 mm, Pitch 1.27 mm Pitch; Supplier 1: Digi-Key; Supplier Part Number 1: TPS5420MDREPG4-ND; Eco-Plan: Green (RoHS & no Sb/Br); Switch Current Limit(Typ)(A): 3; Topology: Buck; Mounting Technology: Surface Mount; Code_JEDEC: MS-012AA; ComponentLink1Description: Datasheet; ComponentLink1URL: http://www.ti.com/general/docs/lit/getliterature.tsp?genericPartNumber=TPS5420-EP&fileType=pdf; ComponentLink2Description: Package Specification; ComponentLink2URL: http://www.ti.com/litv/pdf/msoi002j; ComponentLink3Description: URL Link1; ComponentLink3URL: Samples URL:http://www.ti.com/product/tps5420-ep#samples
footprint D8_N (SOIC, 8-Leads, Body 4.9x3.9mm, Pitch 1.27mm, IPC Medium Density)
footprint D8_L (SOIC, 8-Leads, Body 4.9x3.9mm, Pitch 1.27mm, IPC High Density)
footprint D8_M (SOIC, 8-Leads, Body 4.9x3.9mm, Pitch 1.27mm, IPC Low Density)
part A pins: 1 BOOT "Boost capacitor for the high-side FET gate driver. Connect 0.01-µF low-ESR capacitor from BOOT pin to PH pin.", 4 VSENSE (in) "Feedback voltage for the regulator. Connect to output voltage divider.", 5 ENA (in) "On/off control. Below 0.5 V, the device stops switching. Float the pin to enable.", 6 GND (power) "Ground", 7 VIN (power) "Input supply voltage. Bypass VIN pin to GND pin close to device package with a high-quality, low-ESR ceramic capacitor.", 8 PH (power) "Source of the high-side power MOSFET. Connected to external inductor and diode."
part B pins: 2 NC "Not connected internally", 3 NC "Not connected internally"

## TPS51461RGER
designator U?
Buck D-CAP+Mode Step Down Regulator with 3.1 to 6.5 V Input and 0.8 to 6.5 V Output, -40 to 85 degC, 24-Pin VQFN (RGE), Green (RoHS & no Sb/Br); Manufacturer: Texas Instruments; PartNumber: TPS51461RGER; Duty Cycle(Max)(%): 84; Iout(Max)(A): 6; Rating: Catalog; Regulated Outputs(#): 1; SubFamily: Step-Down Regulator; Switch Current Limit(Typ)(A): 7.5; Topology: Buck, D-CAP+Mode; Vin(Max)(V): 6.5; Vin(Min)(V): 3.1; Vout(Min)(V): 0.8; DatasheetVersion: SLUSAD9B; PackageVersion: revG, Jul-2011; PackageReference: RGE24-2100X2100TP; PackageDescription: 24-Pin Plastic Quad Flatpack No-Lead, 4 x 4 mm Body, 0.5 mm Pitch; Supplier 1: Digi-Key; Supplier Part Number 1: 296-28099-2-ND; Eco-Plan: Green (RoHS & no Sb/Br); Vout(Max)(V): 6.5; Mounting Technology: Surface Mount; Code_JEDEC: MO-220; ComponentLink1Description: Datasheet; ComponentLink1URL: http://www.ti.com/general/docs/lit/getliterature.tsp?genericPartNumber=TPS51461&fileType=pdf; ComponentLink2Description: Package Specification; ComponentLink2URL: http://www.ti.com/litv/pdf/mpqf124f; ComponentLink3Description: URL Link1; ComponentLink3URL: Samples URL:http://www.ti.com/product/tps51461#samples
footprint RGE24-2100X2100TP (QFN, 24-Leads, Body 4x4mm, Pitch 0.5mm, Thermal Pad 2.1x2.1mm, TI Recommended)
pins: 1 GND (power) "Signal ground.", 2 VREF (out) "2.0-V reference output. Connect a 0.22-µF ceramic capacitor to GND.", 3 COMP "Connect series R/C or R between this pin and VREF for loop compensation.", 4 SLEW (in) "Program the startup and voltage transition time using an external capacitor via 10-µA current source.", 5 VOUT (in) "Output voltage monitor input pin.", 6 MODE (in) "Allows selection of switching frequencies and output voltage", 7 SW (power) "Switching node output. Connect to the external inductor. Also serve as current-sensing negative input.", 8 SW (power) "Switching node output. Connect to the external inductor. Also serve as current-sensing negative input.", 9 SW (power) "Switching node output. Connect to the external inductor. Also serve as current-sensing negative input.", 10 SW (power) "Switching node output. Connect to the external inductor. Also serve as current-sensing negative input.", 11 SW (power) "Switching node output. Connect to the external inductor. Also serve as current-sensing negative input.", 12 BST (power) "Power supply for internal high-side gate driver. Connect a 0.1-µF bootstrap capacitor between this pin and the SW pin.", 13 EN (in) "Enable of the SMPS.", 14 VID0 (in) "2-bit VID input.", 15 VID1 (in) "2-bit VID input.", 16 PGOOD (oc) "Power good output. Connect pull-up resistor.", 17 V5FILT (power) "5-V power supply for analog circuits.", 18 V5DRV (power) "5-V power supply for the gate driver.", 19 PGND (power) "Power ground. Source terminal of the rectifying low-side power FET. Positive input for current sensing.", 20 PGND (power) "Power ground. Source terminal of the rectifying low-side power FET. Positive input for current sensing.", 21 PGND (power) "Power ground. Source terminal of the rectifying low-side power FET. Positive input for current sensing.", 22 VIN (power) "Power supply input pin. Drain terminal of the switching high-side power FET.", 23 VIN (power) "Power supply input pin. Drain terminal of the switching high-side power FET.", 24 VIN (power) "Power supply input pin. Drain terminal of the switching high-side power FET.", 25 TP (power) "Exposed Thermal Pad"

## TPS51461RGET
designator U?
Buck D-CAP+Mode Step Down Regulator with 3.1 to 6.5 V Input and 0.8 to 6.5 V Output, -40 to 85 degC, 24-Pin VQFN (RGE), Green (RoHS & no Sb/Br); Manufacturer: Texas Instruments; PartNumber: TPS51461RGET; Duty Cycle(Max)(%): 84; Iout(Max)(A): 6; Rating: Catalog; Regulated Outputs(#): 1; SubFamily: Step-Down Regulator; Switch Current Limit(Typ)(A): 7.5; Topology: Buck, D-CAP+Mode; Vin(Max)(V): 6.5; Vin(Min)(V): 3.1; Vout(Min)(V): 0.8; DatasheetVersion: SLUSAD9B; PackageVersion: revG, Jul-2011; PackageReference: RGE24-2100X2100TP; PackageDescription: 24-Pin Plastic Quad Flatpack No-Lead, 4 x 4 mm Body, 0.5 mm Pitch; Supplier 1: Digi-Key; Supplier Part Number 1: TPS51461RGET-ND; Eco-Plan: Green (RoHS & no Sb/Br); Vout(Max)(V): 6.5; Mounting Technology: Surface Mount; Code_JEDEC: MO-220; ComponentLink1Description: Datasheet; ComponentLink1URL: http://www.ti.com/general/docs/lit/getliterature.tsp?genericPartNumber=TPS51461&fileType=pdf; ComponentLink2Description: Package Specification; ComponentLink2URL: http://www.ti.com/litv/pdf/mpqf124f; ComponentLink3Description: URL Link1; ComponentLink3URL: Samples URL:http://www.ti.com/product/tps54611#samples
footprint RGE24-2100X2100TP (QFN, 24-Leads, Body 4x4mm, Pitch 0.5mm, Thermal Pad 2.1x2.1mm, TI Recommended)
pins: 1 GND (power) "Signal ground.", 2 VREF (out) "2.0-V reference output. Connect a 0.22-µF ceramic capacitor to GND.", 3 COMP "Connect series R/C or R between this pin and VREF for loop compensation.", 4 SLEW (in) "Program the startup and voltage transition time using an external capacitor via 10-µA current source.", 5 VOUT (in) "Output voltage monitor input pin.", 6 MODE (in) "Allows selection of switching frequencies and output voltage", 7 SW (power) "Switching node output. Connect to the external inductor. Also serve as current-sensing negative input.", 8 SW (power) "Switching node output. Connect to the external inductor. Also serve as current-sensing negative input.", 9 SW (power) "Switching node output. Connect to the external inductor. Also serve as current-sensing negative input.", 10 SW (power) "Switching node output. Connect to the external inductor. Also serve as current-sensing negative input.", 11 SW (power) "Switching node output. Connect to the external inductor. Also serve as current-sensing negative input.", 12 BST (power) "Power supply for internal high-side gate driver. Connect a 0.1-µF bootstrap capacitor between this pin and the SW pin.", 13 EN (in) "Enable of the SMPS.", 14 VID0 (in) "2-bit VID input.", 15 VID1 (in) "2-bit VID input.", 16 PGOOD (oc) "Power good output. Connect pull-up resistor.", 17 V5FILT (power) "5-V power supply for analog circuits.", 18 V5DRV (power) "5-V power supply for the gate driver.", 19 PGND (power) "Power ground. Source terminal of the rectifying low-side power FET. Positive input for current sensing.", 20 PGND (power) "Power ground. Source terminal of the rectifying low-side power FET. Positive input for current sensing.", 21 PGND (power) "Power ground. Source terminal of the rectifying low-side power FET. Positive input for current sensing.", 22 VIN (power) "Power supply input pin. Drain terminal of the switching high-side power FET.", 23 VIN (power) "Power supply input pin. Drain terminal of the switching high-side power FET.", 24 VIN (power) "Power supply input pin. Drain terminal of the switching high-side power FET.", 25 TP (power) "Exposed Thermal Pad"

## TPS51462RGER
designator U?
D-CAP+Mode Step Down Regulator with 3.3 to 5 V Input and 0.5 to 2 V Output, -40 to 85 degC, 24-Pin VQFN (RGE), Green (RoHS & no Sb/Br); Manufacturer: Texas Instruments; PartNumber: TPS51462RGER; Duty Cycle(Max)(%): 84; Iout(Max)(A): 6; Rating: Catalog; Regulated Outputs(#): 1; SubFamily: Step-Down Regulator; Switch Current Limit(Typ)(A): 7.5; Vin(Max)(V): 5; Vin(Min)(V): 3.3; Vout(Max)(V): 2; Vout(Min)(V): 0.5; DatasheetVersion: SLUSAQ1; PackageVersion: revG, Jul-2011; PackageReference: RGE24-2100X2100TP; PackageDescription: 24-Pin Plastic Quad Flatpack No-Lead, 4 x 4 mm Body, 0.5 mm Pitch; Supplier 1: Digi-Key; Supplier Part Number 1: TPS51462RGER-ND; Eco-Plan: Green (RoHS & no Sb/Br); Topology: D-CAP+Mode; Mounting Technology: Surface Mount; Code_JEDEC: MO-220; ComponentLink1Description: Datasheet; ComponentLink1URL: http://www.ti.com/general/docs/lit/getliterature.tsp?genericPartNumber=TPS51462&fileType=pdf; ComponentLink2Description: Package Specification; ComponentLink2URL: http://www.ti.com/litv/pdf/mpqf124f; ComponentLink3Description: URL Link1; ComponentLink3URL: Samples URL:http://www.ti.com/product/tps51462#samples
footprint RGE24-2100X2100TP (QFN, 24-Leads, Body 4x4mm, Pitch 0.5mm, Thermal Pad 2.1x2.1mm, TI Recommended)
pins: 1 GND (power) "Power ground. Source terminal of the rectifying low-side power FET.", 2 VREF (out) "2.0-V reference output. Connect a 0.22-uF ceramic capacitor to GND.", 3 COMP "Connect series R-C to the VREF pin for loop compensation.", 4 SLEW (io) "Program the startup and voltage transition time using an external capacitor via 10-uA current source.", 5 VOUT (in) "Output voltage monitor input pin.", 6 MODE (in) "Allows selection of switching frequencies and output voltage. (See Table 3)", 7 SW (power) "Switching node output. Connect to the external inductor.", 8 SW (power) "Switching node output. Connect to the external inductor.", 9 SW (power) "Switching node output. Connect to the external inductor.", 10 SW (power) "Switching node output. Connect to the external inductor.", 11 SW (power) "Switching node output. Connect to the external inductor.", 12 BST (power) "Power supply for internal high-side gate driver. Connect a 0.1-uF bootstrap capacitor between this pin and the SW pin.", 13 EN (in) "Enable of the SMPS.", 14 VID0 (in) "2-bit VID input.", 15 VID1 (in) "2-bit VID input.", 16 PGOOD (oc) "Power good output. Connect pull-up resistor.", 17 V5FILT (power) "5-V power supply for analog circuits.", 18 V5DRV (power) "5-V power supply for the gate driver.", 19 PGND (power) "Power ground. Source terminal of the rectifying low-side power FET.", 20 PGND (power) "Power ground. Source terminal of the rectifying low-side power FET.", 21 PGND (power) "Power ground. Source terminal of the rectifying low-side power FET.", 22 VIN (power) "Power supply input pin. Drain terminal of the switching high-side power FET.", 23 VIN (power) "Power supply input pin. Drain terminal of the switching high-side power FET.", 24 VIN (power) "Power supply input pin. Drain terminal of the switching high-side power FET.", 25 TP (power) "Connect directly to system GND plane with multiple vias."